# Altium footprint library 芯片.PcbLib: 193 footprints (part 7 of 13)
Each footprint in its own frame and in the unit in brackets; x right, y up, seen from the top. Pads: shape width x height; smd on the part's side, far side on the other; paste and mask are expansions set on the pad; w line width, h text height; cw(c..) or ccw(c..) is an arc to the next point about the centre after c.
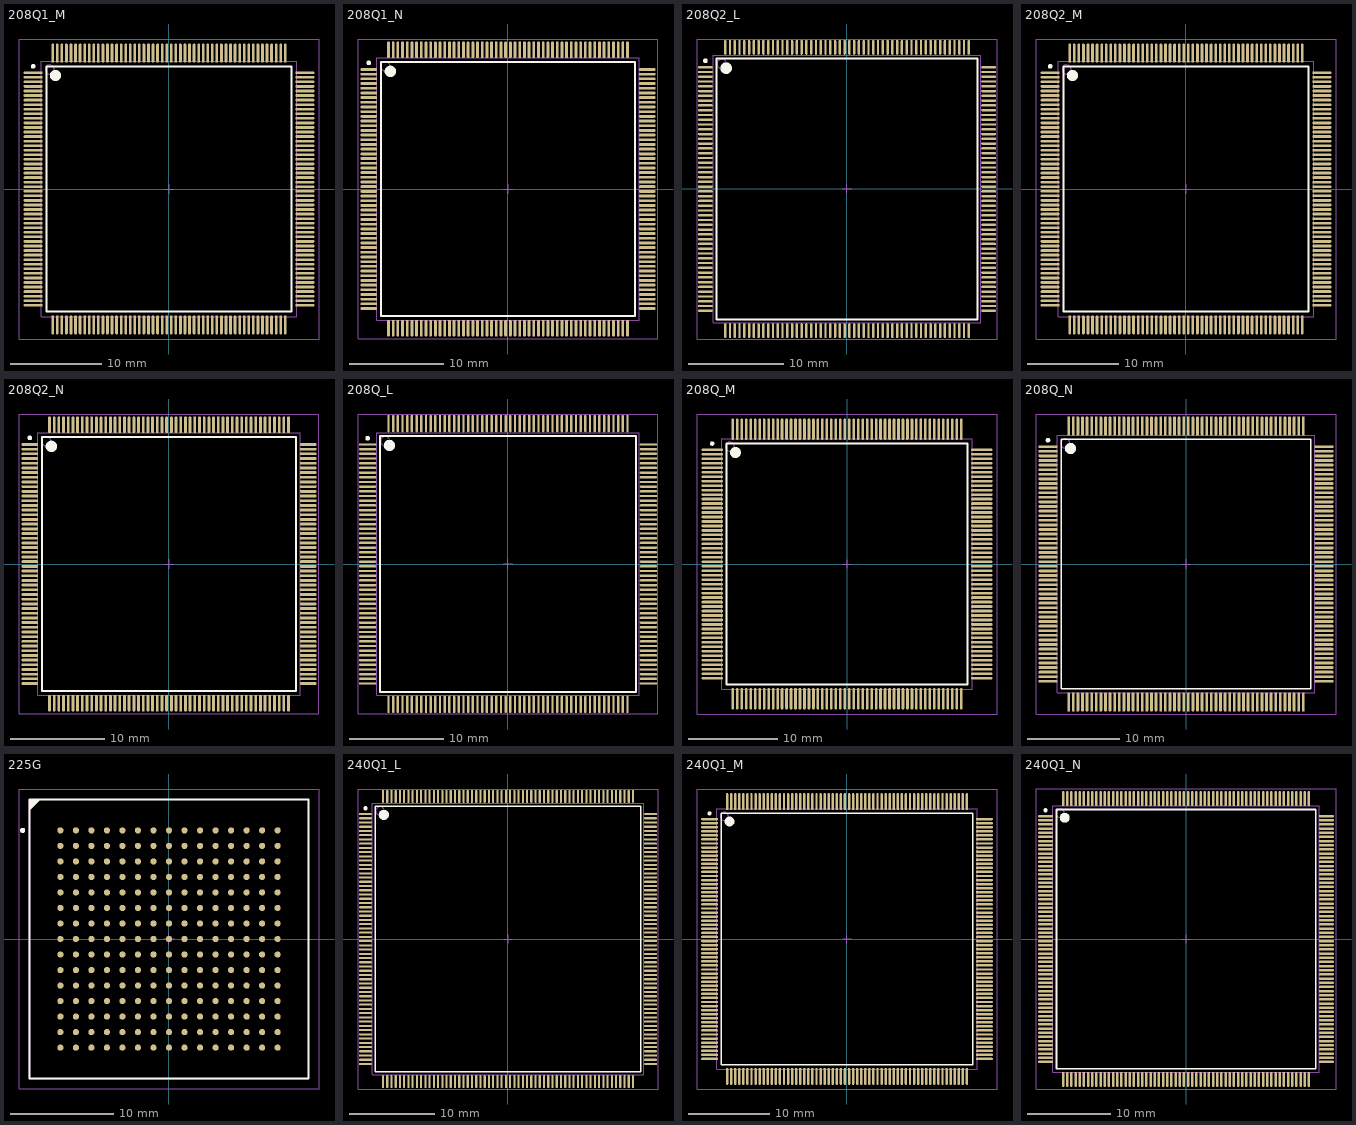
[diagram p6: the footprints below, top view; thin cyan lines are the x and y axes]

## 208Q1_M [mm] "208-Pin Shrink Quad Flat Pack 0.5 mm Pitch, IPC Low Density"
height 4.02
pads (208):
  oval 2.1x0.3 smd: 1(-14.9,12.75) 2(-14.9,12.25) 3(-14.9,11.75) 4(-14.9,11.25) 5(-14.9,10.75) 6(-14.9,10.25) 7(-14.9,9.75) 8(-14.9,9.25) 9(-14.9,8.75) 10(-14.9,8.25) 11(-14.9,7.75) 12(-14.9,7.25) 13(-14.9,6.75) 14(-14.9,6.25) 15(-14.9,5.75) 16(-14.9,5.25) 17(-14.9,4.75) 18(-14.9,4.25) 19(-14.9,3.75) 20(-14.9,3.25) 21(-14.9,2.75) 22(-14.9,2.25) 23(-14.9,1.75) 24(-14.9,1.25) 25(-14.9,0.75) 26(-14.9,0.25) 27(-14.9,-0.25) 28(-14.9,-0.75) 29(-14.9,-1.25) 30(-14.9,-1.75) 31(-14.9,-2.25) 32(-14.9,-2.75) 33(-14.9,-3.25) 34(-14.9,-3.75) 35(-14.9,-4.25) 36(-14.9,-4.75) 37(-14.9,-5.25) 38(-14.9,-5.75) 39(-14.9,-6.25) 40(-14.9,-6.75) 41(-14.9,-7.25) 42(-14.9,-7.75) 43(-14.9,-8.25) 44(-14.9,-8.75) 45(-14.9,-9.25) 46(-14.9,-9.75) 47(-14.9,-10.25) 48(-14.9,-10.75) 49(-14.9,-11.25) 50(-14.9,-11.75) 51(-14.9,-12.25) 52(-14.9,-12.75) 105(14.9,-12.75) 106(14.9,-12.25) 107(14.9,-11.75) 108(14.9,-11.25) 109(14.9,-10.75) 110(14.9,-10.25) 111(14.9,-9.75) 112(14.9,-9.25) 113(14.9,-8.75) 114(14.9,-8.25) 115(14.9,-7.75) 116(14.9,-7.25) 117(14.9,-6.75) 118(14.9,-6.25) 119(14.9,-5.75) 120(14.9,-5.25) 121(14.9,-4.75) 122(14.9,-4.25) 123(14.9,-3.75) 124(14.9,-3.25) 125(14.9,-2.75) 126(14.9,-2.25) 127(14.9,-1.75) 128(14.9,-1.25) 129(14.9,-0.75) 130(14.9,-0.25) 131(14.9,0.25) 132(14.9,0.75) 133(14.9,1.25) 134(14.9,1.75) 135(14.9,2.25) 136(14.9,2.75) 137(14.9,3.25) 138(14.9,3.75) 139(14.9,4.25) 140(14.9,4.75) 141(14.9,5.25) 142(14.9,5.75) 143(14.9,6.25) 144(14.9,6.75) 145(14.9,7.25) 146(14.9,7.75) 147(14.9,8.25) 148(14.9,8.75) 149(14.9,9.25) 150(14.9,9.75) 151(14.9,10.25) 152(14.9,10.75) 153(14.9,11.25) 154(14.9,11.75) 155(14.9,12.25) 156(14.9,12.75)
  oval 0.3x2.1 smd: 53(-12.75,-14.9) 54(-12.25,-14.9) 55(-11.75,-14.9) 56(-11.25,-14.9) 57(-10.75,-14.9) 58(-10.25,-14.9) 59(-9.75,-14.9) 60(-9.25,-14.9) 61(-8.75,-14.9) 62(-8.25,-14.9) 63(-7.75,-14.9) 64(-7.25,-14.9) 65(-6.75,-14.9) 66(-6.25,-14.9) 67(-5.75,-14.9) 68(-5.25,-14.9) 69(-4.75,-14.9) 70(-4.25,-14.9) 71(-3.75,-14.9) 72(-3.25,-14.9) 73(-2.75,-14.9) 74(-2.25,-14.9) 75(-1.75,-14.9) 76(-1.25,-14.9) 77(-0.75,-14.9) 78(-0.25,-14.9) 79(0.25,-14.9) 80(0.75,-14.9) 81(1.25,-14.9) 82(1.75,-14.9) 83(2.25,-14.9) 84(2.75,-14.9) 85(3.25,-14.9) 86(3.75,-14.9) 87(4.25,-14.9) 88(4.75,-14.9) 89(5.25,-14.9) 90(5.75,-14.9) 91(6.25,-14.9) 92(6.75,-14.9) 93(7.25,-14.9) 94(7.75,-14.9) 95(8.25,-14.9) 96(8.75,-14.9) 97(9.25,-14.9) 98(9.75,-14.9) 99(10.25,-14.9) 100(10.75,-14.9) 101(11.25,-14.9) 102(11.75,-14.9) 103(12.25,-14.9) 104(12.75,-14.9) 157(12.75,14.9) 158(12.25,14.9) 159(11.75,14.9) 160(11.25,14.9) 161(10.75,14.9) 162(10.25,14.9) 163(9.75,14.9) 164(9.25,14.9) 165(8.75,14.9) 166(8.25,14.9) 167(7.75,14.9) 168(7.25,14.9) 169(6.75,14.9) 170(6.25,14.9) 171(5.75,14.9) 172(5.25,14.9) 173(4.75,14.9) 174(4.25,14.9) 175(3.75,14.9) 176(3.25,14.9) 177(2.75,14.9) 178(2.25,14.9) 179(1.75,14.9) 180(1.25,14.9) 181(0.75,14.9) 182(0.25,14.9) 183(-0.25,14.9) 184(-0.75,14.9) 185(-1.25,14.9) 186(-1.75,14.9) 187(-2.25,14.9) 188(-2.75,14.9) 189(-3.25,14.9) 190(-3.75,14.9) 191(-4.25,14.9) 192(-4.75,14.9) 193(-5.25,14.9) 194(-5.75,14.9) 195(-6.25,14.9) 196(-6.75,14.9) 197(-7.25,14.9) 198(-7.75,14.9) 199(-8.25,14.9) 200(-8.75,14.9) 201(-9.25,14.9) 202(-9.75,14.9) 203(-10.25,14.9) 204(-10.75,14.9) 205(-11.25,14.9) 206(-11.75,14.9) 207(-12.25,14.9) 208(-12.75,14.9)
Top Overlay:
  circle w0.6: c-12.45,12.45 r0.3
  circle w0.25: c-14.9,13.45 r0.125
  lines w0.2: -13.45,-13.45 13.45,-13.45 13.45,13.45 -13.45,13.45 -13.45,-13.45
Mechanical 13:
  circle w0.1: c-13.1,13.1 r0.5
  lines w0.1: -14,-14 14,-14 14,14 -14,14 -14,-14
Mechanical 15:
  lines w0.1: -0.5,0 0.5,0 ; 0,-0.5 0,0.5 ; -16.45,-16.45 16.45,-16.45 16.45,16.45 -16.45,16.45 -16.45,-16.45
3D body: height 4.02, standoff 0, extent -14,-14 14,14

## 208Q1_N [mm] "208-Pin Shrink Quad Flat Pack 0.5 mm Pitch, IPC Medium Density"
height 4.02
pads (208):
  oval 1.8x0.3 smd: 1(-14.85,12.75) 2(-14.85,12.25) 3(-14.85,11.75) 4(-14.85,11.25) 5(-14.85,10.75) 6(-14.85,10.25) 7(-14.85,9.75) 8(-14.85,9.25) 9(-14.85,8.75) 10(-14.85,8.25) 11(-14.85,7.75) 12(-14.85,7.25) 13(-14.85,6.75) 14(-14.85,6.25) 15(-14.85,5.75) 16(-14.85,5.25) 17(-14.85,4.75) 18(-14.85,4.25) 19(-14.85,3.75) 20(-14.85,3.25) 21(-14.85,2.75) 22(-14.85,2.25) 23(-14.85,1.75) 24(-14.85,1.25) 25(-14.85,0.75) 26(-14.85,0.25) 27(-14.85,-0.25) 28(-14.85,-0.75) 29(-14.85,-1.25) 30(-14.85,-1.75) 31(-14.85,-2.25) 32(-14.85,-2.75) 33(-14.85,-3.25) 34(-14.85,-3.75) 35(-14.85,-4.25) 36(-14.85,-4.75) 37(-14.85,-5.25) 38(-14.85,-5.75) 39(-14.85,-6.25) 40(-14.85,-6.75) 41(-14.85,-7.25) 42(-14.85,-7.75) 43(-14.85,-8.25) 44(-14.85,-8.75) 45(-14.85,-9.25) 46(-14.85,-9.75) 47(-14.85,-10.25) 48(-14.85,-10.75) 49(-14.85,-11.25) 50(-14.85,-11.75) 51(-14.85,-12.25) 52(-14.85,-12.75) 105(14.85,-12.75) 106(14.85,-12.25) 107(14.85,-11.75) 108(14.85,-11.25) 109(14.85,-10.75) 110(14.85,-10.25) 111(14.85,-9.75) 112(14.85,-9.25) 113(14.85,-8.75) 114(14.85,-8.25) 115(14.85,-7.75) 116(14.85,-7.25) 117(14.85,-6.75) 118(14.85,-6.25) 119(14.85,-5.75) 120(14.85,-5.25) 121(14.85,-4.75) 122(14.85,-4.25) 123(14.85,-3.75) 124(14.85,-3.25) 125(14.85,-2.75) 126(14.85,-2.25) 127(14.85,-1.75) 128(14.85,-1.25) 129(14.85,-0.75) 130(14.85,-0.25) 131(14.85,0.25) 132(14.85,0.75) 133(14.85,1.25) 134(14.85,1.75) 135(14.85,2.25) 136(14.85,2.75) 137(14.85,3.25) 138(14.85,3.75) 139(14.85,4.25) 140(14.85,4.75) 141(14.85,5.25) 142(14.85,5.75) 143(14.85,6.25) 144(14.85,6.75) 145(14.85,7.25) 146(14.85,7.75) 147(14.85,8.25) 148(14.85,8.75) 149(14.85,9.25) 150(14.85,9.75) 151(14.85,10.25) 152(14.85,10.75) 153(14.85,11.25) 154(14.85,11.75) 155(14.85,12.25) 156(14.85,12.75)
  oval 0.3x1.8 smd: 53(-12.75,-14.85) 54(-12.25,-14.85) 55(-11.75,-14.85) 56(-11.25,-14.85) 57(-10.75,-14.85) 58(-10.25,-14.85) 59(-9.75,-14.85) 60(-9.25,-14.85) 61(-8.75,-14.85) 62(-8.25,-14.85) 63(-7.75,-14.85) 64(-7.25,-14.85) 65(-6.75,-14.85) 66(-6.25,-14.85) 67(-5.75,-14.85) 68(-5.25,-14.85) 69(-4.75,-14.85) 70(-4.25,-14.85) 71(-3.75,-14.85) 72(-3.25,-14.85) 73(-2.75,-14.85) 74(-2.25,-14.85) 75(-1.75,-14.85) 76(-1.25,-14.85) 77(-0.75,-14.85) 78(-0.25,-14.85) 79(0.25,-14.85) 80(0.75,-14.85) 81(1.25,-14.85) 82(1.75,-14.85) 83(2.25,-14.85) 84(2.75,-14.85) 85(3.25,-14.85) 86(3.75,-14.85) 87(4.25,-14.85) 88(4.75,-14.85) 89(5.25,-14.85) 90(5.75,-14.85) 91(6.25,-14.85) 92(6.75,-14.85) 93(7.25,-14.85) 94(7.75,-14.85) 95(8.25,-14.85) 96(8.75,-14.85) 97(9.25,-14.85) 98(9.75,-14.85) 99(10.25,-14.85) 100(10.75,-14.85) 101(11.25,-14.85) 102(11.75,-14.85) 103(12.25,-14.85) 104(12.75,-14.85) 157(12.75,14.85) 158(12.25,14.85) 159(11.75,14.85) 160(11.25,14.85) 161(10.75,14.85) 162(10.25,14.85) 163(9.75,14.85) 164(9.25,14.85) 165(8.75,14.85) 166(8.25,14.85) 167(7.75,14.85) 168(7.25,14.85) 169(6.75,14.85) 170(6.25,14.85) 171(5.75,14.85) 172(5.25,14.85) 173(4.75,14.85) 174(4.25,14.85) 175(3.75,14.85) 176(3.25,14.85) 177(2.75,14.85) 178(2.25,14.85) 179(1.75,14.85) 180(1.25,14.85) 181(0.75,14.85) 182(0.25,14.85) 183(-0.25,14.85) 184(-0.75,14.85) 185(-1.25,14.85) 186(-1.75,14.85) 187(-2.25,14.85) 188(-2.75,14.85) 189(-3.25,14.85) 190(-3.75,14.85) 191(-4.25,14.85) 192(-4.75,14.85) 193(-5.25,14.85) 194(-5.75,14.85) 195(-6.25,14.85) 196(-6.75,14.85) 197(-7.25,14.85) 198(-7.75,14.85) 199(-8.25,14.85) 200(-8.75,14.85) 201(-9.25,14.85) 202(-9.75,14.85) 203(-10.25,14.85) 204(-10.75,14.85) 205(-11.25,14.85) 206(-11.75,14.85) 207(-12.25,14.85) 208(-12.75,14.85)
Top Overlay:
  circle w0.6: c-12.55,12.55 r0.3
  circle w0.25: c-14.85,13.45 r0.125
  lines w0.2: -13.55,-13.55 13.55,-13.55 13.55,13.55 -13.55,13.55 -13.55,-13.55
Mechanical 13:
  circle w0.1: c-13.1,13.1 r0.5
  lines w0.1: -14,-14 14,-14 14,14 -14,14 -14,-14
Mechanical 15:
  lines w0.1: -0.5,0 0.5,0 ; 0,-0.5 0,0.5 ; -16,-16 16,-16 16,16 -16,16 -16,-16
3D body: height 4.02, standoff 0, extent -14,-14 14,14

## 208Q2_L [mm] "208-Pin Plastic Shrink Quad Flat Pack 0.5 mm Pitch, IPC High Density"
height 3.78
pads (208):
  oval 1.55x0.25 smd: 1(-14.825,12.75) 2(-14.825,12.25) 3(-14.825,11.75) 4(-14.825,11.25) 5(-14.825,10.75) 6(-14.825,10.25) 7(-14.825,9.75) 8(-14.825,9.25) 9(-14.825,8.75) 10(-14.825,8.25) 11(-14.825,7.75) 12(-14.825,7.25) 13(-14.825,6.75) 14(-14.825,6.25) 15(-14.825,5.75) 16(-14.825,5.25) 17(-14.825,4.75) 18(-14.825,4.25) 19(-14.825,3.75) 20(-14.825,3.25) 21(-14.825,2.75) 22(-14.825,2.25) 23(-14.825,1.75) 24(-14.825,1.25) 25(-14.825,0.75) 26(-14.825,0.25) 27(-14.825,-0.25) 28(-14.825,-0.75) 29(-14.825,-1.25) 30(-14.825,-1.75) 31(-14.825,-2.25) 32(-14.825,-2.75) 33(-14.825,-3.25) 34(-14.825,-3.75) 35(-14.825,-4.25) 36(-14.825,-4.75) 37(-14.825,-5.25) 38(-14.825,-5.75) 39(-14.825,-6.25) 40(-14.825,-6.75) 41(-14.825,-7.25) 42(-14.825,-7.75) 43(-14.825,-8.25) 44(-14.825,-8.75) 45(-14.825,-9.25) 46(-14.825,-9.75) 47(-14.825,-10.25) 48(-14.825,-10.75) 49(-14.825,-11.25) 50(-14.825,-11.75) 51(-14.825,-12.25) 52(-14.825,-12.75) 105(14.825,-12.75) 106(14.825,-12.25) 107(14.825,-11.75) 108(14.825,-11.25) 109(14.825,-10.75) 110(14.825,-10.25) 111(14.825,-9.75) 112(14.825,-9.25) 113(14.825,-8.75) 114(14.825,-8.25) 115(14.825,-7.75) 116(14.825,-7.25) 117(14.825,-6.75) 118(14.825,-6.25) 119(14.825,-5.75) 120(14.825,-5.25) 121(14.825,-4.75) 122(14.825,-4.25) 123(14.825,-3.75) 124(14.825,-3.25) 125(14.825,-2.75) 126(14.825,-2.25) 127(14.825,-1.75) 128(14.825,-1.25) 129(14.825,-0.75) 130(14.825,-0.25) 131(14.825,0.25) 132(14.825,0.75) 133(14.825,1.25) 134(14.825,1.75) 135(14.825,2.25) 136(14.825,2.75) 137(14.825,3.25) 138(14.825,3.75) 139(14.825,4.25) 140(14.825,4.75) 141(14.825,5.25) 142(14.825,5.75) 143(14.825,6.25) 144(14.825,6.75) 145(14.825,7.25) 146(14.825,7.75) 147(14.825,8.25) 148(14.825,8.75) 149(14.825,9.25) 150(14.825,9.75) 151(14.825,10.25) 152(14.825,10.75) 153(14.825,11.25) 154(14.825,11.75) 155(14.825,12.25) 156(14.825,12.75)
  oval 0.25x1.55 smd: 53(-12.75,-14.825) 54(-12.25,-14.825) 55(-11.75,-14.825) 56(-11.25,-14.825) 57(-10.75,-14.825) 58(-10.25,-14.825) 59(-9.75,-14.825) 60(-9.25,-14.825) 61(-8.75,-14.825) 62(-8.25,-14.825) 63(-7.75,-14.825) 64(-7.25,-14.825) 65(-6.75,-14.825) 66(-6.25,-14.825) 67(-5.75,-14.825) 68(-5.25,-14.825) 69(-4.75,-14.825) 70(-4.25,-14.825) 71(-3.75,-14.825) 72(-3.25,-14.825) 73(-2.75,-14.825) 74(-2.25,-14.825) 75(-1.75,-14.825) 76(-1.25,-14.825) 77(-0.75,-14.825) 78(-0.25,-14.825) 79(0.25,-14.825) 80(0.75,-14.825) 81(1.25,-14.825) 82(1.75,-14.825) 83(2.25,-14.825) 84(2.75,-14.825) 85(3.25,-14.825) 86(3.75,-14.825) 87(4.25,-14.825) 88(4.75,-14.825) 89(5.25,-14.825) 90(5.75,-14.825) 91(6.25,-14.825) 92(6.75,-14.825) 93(7.25,-14.825) 94(7.75,-14.825) 95(8.25,-14.825) 96(8.75,-14.825) 97(9.25,-14.825) 98(9.75,-14.825) 99(10.25,-14.825) 100(10.75,-14.825) 101(11.25,-14.825) 102(11.75,-14.825) 103(12.25,-14.825) 104(12.75,-14.825) 157(12.75,14.825) 158(12.25,14.825) 159(11.75,14.825) 160(11.25,14.825) 161(10.75,14.825) 162(10.25,14.825) 163(9.75,14.825) 164(9.25,14.825) 165(8.75,14.825) 166(8.25,14.825) 167(7.75,14.825) 168(7.25,14.825) 169(6.75,14.825) 170(6.25,14.825) 171(5.75,14.825) 172(5.25,14.825) 173(4.75,14.825) 174(4.25,14.825) 175(3.75,14.825) 176(3.25,14.825) 177(2.75,14.825) 178(2.25,14.825) 179(1.75,14.825) 180(1.25,14.825) 181(0.75,14.825) 182(0.25,14.825) 183(-0.25,14.825) 184(-0.75,14.825) 185(-1.25,14.825) 186(-1.75,14.825) 187(-2.25,14.825) 188(-2.75,14.825) 189(-3.25,14.825) 190(-3.75,14.825) 191(-4.25,14.825) 192(-4.75,14.825) 193(-5.25,14.825) 194(-5.75,14.825) 195(-6.25,14.825) 196(-6.75,14.825) 197(-7.25,14.825) 198(-7.75,14.825) 199(-8.25,14.825) 200(-8.75,14.825) 201(-9.25,14.825) 202(-9.75,14.825) 203(-10.25,14.825) 204(-10.75,14.825) 205(-11.25,14.825) 206(-11.75,14.825) 207(-12.25,14.825) 208(-12.75,14.825)
Top Overlay:
  circle w0.6: c-12.65,12.65 r0.3
  circle w0.25: c-14.825,13.425 r0.125
  lines w0.2: -13.65,-13.65 13.65,-13.65 13.65,13.65 -13.65,13.65 -13.65,-13.65
Mechanical 13:
  circle w0.1: c-13.1,13.1 r0.5
  lines w0.1: -14,-14 14,-14 14,14 -14,14 -14,-14
Mechanical 15:
  lines w0.1: -0.5,0 0.5,0 ; 0,-0.5 0,0.5 ; -15.7,-15.7 15.7,-15.7 15.7,15.7 -15.7,15.7 -15.7,-15.7
3D body: height 3.78, standoff 0, extent -14,-14 14,14

## 208Q2_M [mm] "208-Pin Plastic Shrink Quad Flat Pack 0.5 mm Pitch, IPC Low Density"
height 3.78
pads (208):
  oval 2.1x0.3 smd: 1(-14.9,12.75) 2(-14.9,12.25) 3(-14.9,11.75) 4(-14.9,11.25) 5(-14.9,10.75) 6(-14.9,10.25) 7(-14.9,9.75) 8(-14.9,9.25) 9(-14.9,8.75) 10(-14.9,8.25) 11(-14.9,7.75) 12(-14.9,7.25) 13(-14.9,6.75) 14(-14.9,6.25) 15(-14.9,5.75) 16(-14.9,5.25) 17(-14.9,4.75) 18(-14.9,4.25) 19(-14.9,3.75) 20(-14.9,3.25) 21(-14.9,2.75) 22(-14.9,2.25) 23(-14.9,1.75) 24(-14.9,1.25) 25(-14.9,0.75) 26(-14.9,0.25) 27(-14.9,-0.25) 28(-14.9,-0.75) 29(-14.9,-1.25) 30(-14.9,-1.75) 31(-14.9,-2.25) 32(-14.9,-2.75) 33(-14.9,-3.25) 34(-14.9,-3.75) 35(-14.9,-4.25) 36(-14.9,-4.75) 37(-14.9,-5.25) 38(-14.9,-5.75) 39(-14.9,-6.25) 40(-14.9,-6.75) 41(-14.9,-7.25) 42(-14.9,-7.75) 43(-14.9,-8.25) 44(-14.9,-8.75) 45(-14.9,-9.25) 46(-14.9,-9.75) 47(-14.9,-10.25) 48(-14.9,-10.75) 49(-14.9,-11.25) 50(-14.9,-11.75) 51(-14.9,-12.25) 52(-14.9,-12.75) 105(14.9,-12.75) 106(14.9,-12.25) 107(14.9,-11.75) 108(14.9,-11.25) 109(14.9,-10.75) 110(14.9,-10.25) 111(14.9,-9.75) 112(14.9,-9.25) 113(14.9,-8.75) 114(14.9,-8.25) 115(14.9,-7.75) 116(14.9,-7.25) 117(14.9,-6.75) 118(14.9,-6.25) 119(14.9,-5.75) 120(14.9,-5.25) 121(14.9,-4.75) 122(14.9,-4.25) 123(14.9,-3.75) 124(14.9,-3.25) 125(14.9,-2.75) 126(14.9,-2.25) 127(14.9,-1.75) 128(14.9,-1.25) 129(14.9,-0.75) 130(14.9,-0.25) 131(14.9,0.25) 132(14.9,0.75) 133(14.9,1.25) 134(14.9,1.75) 135(14.9,2.25) 136(14.9,2.75) 137(14.9,3.25) 138(14.9,3.75) 139(14.9,4.25) 140(14.9,4.75) 141(14.9,5.25) 142(14.9,5.75) 143(14.9,6.25) 144(14.9,6.75) 145(14.9,7.25) 146(14.9,7.75) 147(14.9,8.25) 148(14.9,8.75) 149(14.9,9.25) 150(14.9,9.75) 151(14.9,10.25) 152(14.9,10.75) 153(14.9,11.25) 154(14.9,11.75) 155(14.9,12.25) 156(14.9,12.75)
  oval 0.3x2.1 smd: 53(-12.75,-14.9) 54(-12.25,-14.9) 55(-11.75,-14.9) 56(-11.25,-14.9) 57(-10.75,-14.9) 58(-10.25,-14.9) 59(-9.75,-14.9) 60(-9.25,-14.9) 61(-8.75,-14.9) 62(-8.25,-14.9) 63(-7.75,-14.9) 64(-7.25,-14.9) 65(-6.75,-14.9) 66(-6.25,-14.9) 67(-5.75,-14.9) 68(-5.25,-14.9) 69(-4.75,-14.9) 70(-4.25,-14.9) 71(-3.75,-14.9) 72(-3.25,-14.9) 73(-2.75,-14.9) 74(-2.25,-14.9) 75(-1.75,-14.9) 76(-1.25,-14.9) 77(-0.75,-14.9) 78(-0.25,-14.9) 79(0.25,-14.9) 80(0.75,-14.9) 81(1.25,-14.9) 82(1.75,-14.9) 83(2.25,-14.9) 84(2.75,-14.9) 85(3.25,-14.9) 86(3.75,-14.9) 87(4.25,-14.9) 88(4.75,-14.9) 89(5.25,-14.9) 90(5.75,-14.9) 91(6.25,-14.9) 92(6.75,-14.9) 93(7.25,-14.9) 94(7.75,-14.9) 95(8.25,-14.9) 96(8.75,-14.9) 97(9.25,-14.9) 98(9.75,-14.9) 99(10.25,-14.9) 100(10.75,-14.9) 101(11.25,-14.9) 102(11.75,-14.9) 103(12.25,-14.9) 104(12.75,-14.9) 157(12.75,14.9) 158(12.25,14.9) 159(11.75,14.9) 160(11.25,14.9) 161(10.75,14.9) 162(10.25,14.9) 163(9.75,14.9) 164(9.25,14.9) 165(8.75,14.9) 166(8.25,14.9) 167(7.75,14.9) 168(7.25,14.9) 169(6.75,14.9) 170(6.25,14.9) 171(5.75,14.9) 172(5.25,14.9) 173(4.75,14.9) 174(4.25,14.9) 175(3.75,14.9) 176(3.25,14.9) 177(2.75,14.9) 178(2.25,14.9) 179(1.75,14.9) 180(1.25,14.9) 181(0.75,14.9) 182(0.25,14.9) 183(-0.25,14.9) 184(-0.75,14.9) 185(-1.25,14.9) 186(-1.75,14.9) 187(-2.25,14.9) 188(-2.75,14.9) 189(-3.25,14.9) 190(-3.75,14.9) 191(-4.25,14.9) 192(-4.75,14.9) 193(-5.25,14.9) 194(-5.75,14.9) 195(-6.25,14.9) 196(-6.75,14.9) 197(-7.25,14.9) 198(-7.75,14.9) 199(-8.25,14.9) 200(-8.75,14.9) 201(-9.25,14.9) 202(-9.75,14.9) 203(-10.25,14.9) 204(-10.75,14.9) 205(-11.25,14.9) 206(-11.75,14.9) 207(-12.25,14.9) 208(-12.75,14.9)
Top Overlay:
  circle w0.6: c-12.45,12.45 r0.3
  circle w0.25: c-14.9,13.45 r0.125
  lines w0.2: -13.45,-13.45 13.45,-13.45 13.45,13.45 -13.45,13.45 -13.45,-13.45
Mechanical 13:
  circle w0.1: c-13.1,13.1 r0.5
  lines w0.1: -14,-14 14,-14 14,14 -14,14 -14,-14
Mechanical 15:
  lines w0.1: -0.5,0 0.5,0 ; 0,-0.5 0,0.5 ; -16.45,-16.45 16.45,-16.45 16.45,16.45 -16.45,16.45 -16.45,-16.45
3D body: height 3.78, standoff 0, extent -14,-14 14,14

## 208Q2_N [mm] "208-Pin Plastic Shrink Quad Flat Pack 0.5 mm Pitch, IPC Medium Density"
height 3.78
pads (208):
  oval 1.8x0.3 smd: 1(-14.85,12.75) 2(-14.85,12.25) 3(-14.85,11.75) 4(-14.85,11.25) 5(-14.85,10.75) 6(-14.85,10.25) 7(-14.85,9.75) 8(-14.85,9.25) 9(-14.85,8.75) 10(-14.85,8.25) 11(-14.85,7.75) 12(-14.85,7.25) 13(-14.85,6.75) 14(-14.85,6.25) 15(-14.85,5.75) 16(-14.85,5.25) 17(-14.85,4.75) 18(-14.85,4.25) 19(-14.85,3.75) 20(-14.85,3.25) 21(-14.85,2.75) 22(-14.85,2.25) 23(-14.85,1.75) 24(-14.85,1.25) 25(-14.85,0.75) 26(-14.85,0.25) 27(-14.85,-0.25) 28(-14.85,-0.75) 29(-14.85,-1.25) 30(-14.85,-1.75) 31(-14.85,-2.25) 32(-14.85,-2.75) 33(-14.85,-3.25) 34(-14.85,-3.75) 35(-14.85,-4.25) 36(-14.85,-4.75) 37(-14.85,-5.25) 38(-14.85,-5.75) 39(-14.85,-6.25) 40(-14.85,-6.75) 41(-14.85,-7.25) 42(-14.85,-7.75) 43(-14.85,-8.25) 44(-14.85,-8.75) 45(-14.85,-9.25) 46(-14.85,-9.75) 47(-14.85,-10.25) 48(-14.85,-10.75) 49(-14.85,-11.25) 50(-14.85,-11.75) 51(-14.85,-12.25) 52(-14.85,-12.75) 105(14.85,-12.75) 106(14.85,-12.25) 107(14.85,-11.75) 108(14.85,-11.25) 109(14.85,-10.75) 110(14.85,-10.25) 111(14.85,-9.75) 112(14.85,-9.25) 113(14.85,-8.75) 114(14.85,-8.25) 115(14.85,-7.75) 116(14.85,-7.25) 117(14.85,-6.75) 118(14.85,-6.25) 119(14.85,-5.75) 120(14.85,-5.25) 121(14.85,-4.75) 122(14.85,-4.25) 123(14.85,-3.75) 124(14.85,-3.25) 125(14.85,-2.75) 126(14.85,-2.25) 127(14.85,-1.75) 128(14.85,-1.25) 129(14.85,-0.75) 130(14.85,-0.25) 131(14.85,0.25) 132(14.85,0.75) 133(14.85,1.25) 134(14.85,1.75) 135(14.85,2.25) 136(14.85,2.75) 137(14.85,3.25) 138(14.85,3.75) 139(14.85,4.25) 140(14.85,4.75) 141(14.85,5.25) 142(14.85,5.75) 143(14.85,6.25) 144(14.85,6.75) 145(14.85,7.25) 146(14.85,7.75) 147(14.85,8.25) 148(14.85,8.75) 149(14.85,9.25) 150(14.85,9.75) 151(14.85,10.25) 152(14.85,10.75) 153(14.85,11.25) 154(14.85,11.75) 155(14.85,12.25) 156(14.85,12.75)
  oval 0.3x1.8 smd: 53(-12.75,-14.85) 54(-12.25,-14.85) 55(-11.75,-14.85) 56(-11.25,-14.85) 57(-10.75,-14.85) 58(-10.25,-14.85) 59(-9.75,-14.85) 60(-9.25,-14.85) 61(-8.75,-14.85) 62(-8.25,-14.85) 63(-7.75,-14.85) 64(-7.25,-14.85) 65(-6.75,-14.85) 66(-6.25,-14.85) 67(-5.75,-14.85) 68(-5.25,-14.85) 69(-4.75,-14.85) 70(-4.25,-14.85) 71(-3.75,-14.85) 72(-3.25,-14.85) 73(-2.75,-14.85) 74(-2.25,-14.85) 75(-1.75,-14.85) 76(-1.25,-14.85) 77(-0.75,-14.85) 78(-0.25,-14.85) 79(0.25,-14.85) 80(0.75,-14.85) 81(1.25,-14.85) 82(1.75,-14.85) 83(2.25,-14.85) 84(2.75,-14.85) 85(3.25,-14.85) 86(3.75,-14.85) 87(4.25,-14.85) 88(4.75,-14.85) 89(5.25,-14.85) 90(5.75,-14.85) 91(6.25,-14.85) 92(6.75,-14.85) 93(7.25,-14.85) 94(7.75,-14.85) 95(8.25,-14.85) 96(8.75,-14.85) 97(9.25,-14.85) 98(9.75,-14.85) 99(10.25,-14.85) 100(10.75,-14.85) 101(11.25,-14.85) 102(11.75,-14.85) 103(12.25,-14.85) 104(12.75,-14.85) 157(12.75,14.85) 158(12.25,14.85) 159(11.75,14.85) 160(11.25,14.85) 161(10.75,14.85) 162(10.25,14.85) 163(9.75,14.85) 164(9.25,14.85) 165(8.75,14.85) 166(8.25,14.85) 167(7.75,14.85) 168(7.25,14.85) 169(6.75,14.85) 170(6.25,14.85) 171(5.75,14.85) 172(5.25,14.85) 173(4.75,14.85) 174(4.25,14.85) 175(3.75,14.85) 176(3.25,14.85) 177(2.75,14.85) 178(2.25,14.85) 179(1.75,14.85) 180(1.25,14.85) 181(0.75,14.85) 182(0.25,14.85) 183(-0.25,14.85) 184(-0.75,14.85) 185(-1.25,14.85) 186(-1.75,14.85) 187(-2.25,14.85) 188(-2.75,14.85) 189(-3.25,14.85) 190(-3.75,14.85) 191(-4.25,14.85) 192(-4.75,14.85) 193(-5.25,14.85) 194(-5.75,14.85) 195(-6.25,14.85) 196(-6.75,14.85) 197(-7.25,14.85) 198(-7.75,14.85) 199(-8.25,14.85) 200(-8.75,14.85) 201(-9.25,14.85) 202(-9.75,14.85) 203(-10.25,14.85) 204(-10.75,14.85) 205(-11.25,14.85) 206(-11.75,14.85) 207(-12.25,14.85) 208(-12.75,14.85)
Top Overlay:
  circle w0.6: c-12.55,12.55 r0.3
  circle w0.25: c-14.85,13.45 r0.125
  lines w0.2: -13.55,-13.55 13.55,-13.55 13.55,13.55 -13.55,13.55 -13.55,-13.55
Mechanical 13:
  circle w0.1: c-13.1,13.1 r0.5
  lines w0.1: -14,-14 14,-14 14,14 -14,14 -14,-14
Mechanical 15:
  lines w0.1: -0.5,0 0.5,0 ; 0,-0.5 0,0.5 ; -16,-16 16,-16 16,16 -16,16 -16,-16
3D body: height 3.78, standoff 0, extent -14,-14 14,14

## 208Q_L [mm] "208-Pin Plastic Gull Wing Quad Flat Package (PQFP), IPC High Density"
height 3.97
pads (208):
  oval 1.85x0.25 smd: 1(-14.975,12.75) 2(-14.975,12.25) 3(-14.975,11.75) 4(-14.975,11.25) 5(-14.975,10.75) 6(-14.975,10.25) 7(-14.975,9.75) 8(-14.975,9.25) 9(-14.975,8.75) 10(-14.975,8.25) 11(-14.975,7.75) 12(-14.975,7.25) 13(-14.975,6.75) 14(-14.975,6.25) 15(-14.975,5.75) 16(-14.975,5.25) 17(-14.975,4.75) 18(-14.975,4.25) 19(-14.975,3.75) 20(-14.975,3.25) 21(-14.975,2.75) 22(-14.975,2.25) 23(-14.975,1.75) 24(-14.975,1.25) 25(-14.975,0.75) 26(-14.975,0.25) 27(-14.975,-0.25) 28(-14.975,-0.75) 29(-14.975,-1.25) 30(-14.975,-1.75) 31(-14.975,-2.25) 32(-14.975,-2.75) 33(-14.975,-3.25) 34(-14.975,-3.75) 35(-14.975,-4.25) 36(-14.975,-4.75) 37(-14.975,-5.25) 38(-14.975,-5.75) 39(-14.975,-6.25) 40(-14.975,-6.75) 41(-14.975,-7.25) 42(-14.975,-7.75) 43(-14.975,-8.25) 44(-14.975,-8.75) 45(-14.975,-9.25) 46(-14.975,-9.75) 47(-14.975,-10.25) 48(-14.975,-10.75) 49(-14.975,-11.25) 50(-14.975,-11.75) 51(-14.975,-12.25) 52(-14.975,-12.75) 105(14.975,-12.75) 106(14.975,-12.25) 107(14.975,-11.75) 108(14.975,-11.25) 109(14.975,-10.75) 110(14.975,-10.25) 111(14.975,-9.75) 112(14.975,-9.25) 113(14.975,-8.75) 114(14.975,-8.25) 115(14.975,-7.75) 116(14.975,-7.25) 117(14.975,-6.75) 118(14.975,-6.25) 119(14.975,-5.75) 120(14.975,-5.25) 121(14.975,-4.75) 122(14.975,-4.25) 123(14.975,-3.75) 124(14.975,-3.25) 125(14.975,-2.75) 126(14.975,-2.25) 127(14.975,-1.75) 128(14.975,-1.25) 129(14.975,-0.75) 130(14.975,-0.25) 131(14.975,0.25) 132(14.975,0.75) 133(14.975,1.25) 134(14.975,1.75) 135(14.975,2.25) 136(14.975,2.75) 137(14.975,3.25) 138(14.975,3.75) 139(14.975,4.25) 140(14.975,4.75) 141(14.975,5.25) 142(14.975,5.75) 143(14.975,6.25) 144(14.975,6.75) 145(14.975,7.25) 146(14.975,7.75) 147(14.975,8.25) 148(14.975,8.75) 149(14.975,9.25) 150(14.975,9.75) 151(14.975,10.25) 152(14.975,10.75) 153(14.975,11.25) 154(14.975,11.75) 155(14.975,12.25) 156(14.975,12.75)
  oval 0.25x1.85 smd: 53(-12.75,-14.975) 54(-12.25,-14.975) 55(-11.75,-14.975) 56(-11.25,-14.975) 57(-10.75,-14.975) 58(-10.25,-14.975) 59(-9.75,-14.975) 60(-9.25,-14.975) 61(-8.75,-14.975) 62(-8.25,-14.975) 63(-7.75,-14.975) 64(-7.25,-14.975) 65(-6.75,-14.975) 66(-6.25,-14.975) 67(-5.75,-14.975) 68(-5.25,-14.975) 69(-4.75,-14.975) 70(-4.25,-14.975) 71(-3.75,-14.975) 72(-3.25,-14.975) 73(-2.75,-14.975) 74(-2.25,-14.975) 75(-1.75,-14.975) 76(-1.25,-14.975) 77(-0.75,-14.975) 78(-0.25,-14.975) 79(0.25,-14.975) 80(0.75,-14.975) 81(1.25,-14.975) 82(1.75,-14.975) 83(2.25,-14.975) 84(2.75,-14.975) 85(3.25,-14.975) 86(3.75,-14.975) 87(4.25,-14.975) 88(4.75,-14.975) 89(5.25,-14.975) 90(5.75,-14.975) 91(6.25,-14.975) 92(6.75,-14.975) 93(7.25,-14.975) 94(7.75,-14.975) 95(8.25,-14.975) 96(8.75,-14.975) 97(9.25,-14.975) 98(9.75,-14.975) 99(10.25,-14.975) 100(10.75,-14.975) 101(11.25,-14.975) 102(11.75,-14.975) 103(12.25,-14.975) 104(12.75,-14.975) 157(12.75,14.975) 158(12.25,14.975) 159(11.75,14.975) 160(11.25,14.975) 161(10.75,14.975) 162(10.25,14.975) 163(9.75,14.975) 164(9.25,14.975) 165(8.75,14.975) 166(8.25,14.975) 167(7.75,14.975) 168(7.25,14.975) 169(6.75,14.975) 170(6.25,14.975) 171(5.75,14.975) 172(5.25,14.975) 173(4.75,14.975) 174(4.25,14.975) 175(3.75,14.975) 176(3.25,14.975) 177(2.75,14.975) 178(2.25,14.975) 179(1.75,14.975) 180(1.25,14.975) 181(0.75,14.975) 182(0.25,14.975) 183(-0.25,14.975) 184(-0.75,14.975) 185(-1.25,14.975) 186(-1.75,14.975) 187(-2.25,14.975) 188(-2.75,14.975) 189(-3.25,14.975) 190(-3.75,14.975) 191(-4.25,14.975) 192(-4.75,14.975) 193(-5.25,14.975) 194(-5.75,14.975) 195(-6.25,14.975) 196(-6.75,14.975) 197(-7.25,14.975) 198(-7.75,14.975) 199(-8.25,14.975) 200(-8.75,14.975) 201(-9.25,14.975) 202(-9.75,14.975) 203(-10.25,14.975) 204(-10.75,14.975) 205(-11.25,14.975) 206(-11.75,14.975) 207(-12.25,14.975) 208(-12.75,14.975)
Top Overlay:
  circle w0.6: c-12.65,12.65 r0.3
  circle w0.25: c-14.975,13.425 r0.125
  lines w0.2: -13.65,-13.65 13.65,-13.65 13.65,13.65 -13.65,13.65 -13.65,-13.65
Mechanical 13:
  circle w0.1: c-13.1,13.1 r0.5
  lines w0.1: -14,-14 14,-14 14,14 -14,14 -14,-14
Mechanical 15:
  lines w0.1: -0.5,0 0.5,0 ; 0,-0.5 0,0.5 ; -16,-16 16,-16 16,16 -16,16 -16,-16
3D body: height 3.97, standoff 0, extent -14,-14 14,14

## 208Q_M [mm] "208-Pin Plastic Gull Wing Quad Flat Package (PQFP), IPC Low Density"
height 3.97
pads (208):
  oval 2.4x0.3 smd: 1(-15.05,12.75) 2(-15.05,12.25) 3(-15.05,11.75) 4(-15.05,11.25) 5(-15.05,10.75) 6(-15.05,10.25) 7(-15.05,9.75) 8(-15.05,9.25) 9(-15.05,8.75) 10(-15.05,8.25) 11(-15.05,7.75) 12(-15.05,7.25) 13(-15.05,6.75) 14(-15.05,6.25) 15(-15.05,5.75) 16(-15.05,5.25) 17(-15.05,4.75) 18(-15.05,4.25) 19(-15.05,3.75) 20(-15.05,3.25) 21(-15.05,2.75) 22(-15.05,2.25) 23(-15.05,1.75) 24(-15.05,1.25) 25(-15.05,0.75) 26(-15.05,0.25) 27(-15.05,-0.25) 28(-15.05,-0.75) 29(-15.05,-1.25) 30(-15.05,-1.75) 31(-15.05,-2.25) 32(-15.05,-2.75) 33(-15.05,-3.25) 34(-15.05,-3.75) 35(-15.05,-4.25) 36(-15.05,-4.75) 37(-15.05,-5.25) 38(-15.05,-5.75) 39(-15.05,-6.25) 40(-15.05,-6.75) 41(-15.05,-7.25) 42(-15.05,-7.75) 43(-15.05,-8.25) 44(-15.05,-8.75) 45(-15.05,-9.25) 46(-15.05,-9.75) 47(-15.05,-10.25) 48(-15.05,-10.75) 49(-15.05,-11.25) 50(-15.05,-11.75) 51(-15.05,-12.25) 52(-15.05,-12.75) 105(15.05,-12.75) 106(15.05,-12.25) 107(15.05,-11.75) 108(15.05,-11.25) 109(15.05,-10.75) 110(15.05,-10.25) 111(15.05,-9.75) 112(15.05,-9.25) 113(15.05,-8.75) 114(15.05,-8.25) 115(15.05,-7.75) 116(15.05,-7.25) 117(15.05,-6.75) 118(15.05,-6.25) 119(15.05,-5.75) 120(15.05,-5.25) 121(15.05,-4.75) 122(15.05,-4.25) 123(15.05,-3.75) 124(15.05,-3.25) 125(15.05,-2.75) 126(15.05,-2.25) 127(15.05,-1.75) 128(15.05,-1.25) 129(15.05,-0.75) 130(15.05,-0.25) 131(15.05,0.25) 132(15.05,0.75) 133(15.05,1.25) 134(15.05,1.75) 135(15.05,2.25) 136(15.05,2.75) 137(15.05,3.25) 138(15.05,3.75) 139(15.05,4.25) 140(15.05,4.75) 141(15.05,5.25) 142(15.05,5.75) 143(15.05,6.25) 144(15.05,6.75) 145(15.05,7.25) 146(15.05,7.75) 147(15.05,8.25) 148(15.05,8.75) 149(15.05,9.25) 150(15.05,9.75) 151(15.05,10.25) 152(15.05,10.75) 153(15.05,11.25) 154(15.05,11.75) 155(15.05,12.25) 156(15.05,12.75)
  oval 0.3x2.4 smd: 53(-12.75,-15.05) 54(-12.25,-15.05) 55(-11.75,-15.05) 56(-11.25,-15.05) 57(-10.75,-15.05) 58(-10.25,-15.05) 59(-9.75,-15.05) 60(-9.25,-15.05) 61(-8.75,-15.05) 62(-8.25,-15.05) 63(-7.75,-15.05) 64(-7.25,-15.05) 65(-6.75,-15.05) 66(-6.25,-15.05) 67(-5.75,-15.05) 68(-5.25,-15.05) 69(-4.75,-15.05) 70(-4.25,-15.05) 71(-3.75,-15.05) 72(-3.25,-15.05) 73(-2.75,-15.05) 74(-2.25,-15.05) 75(-1.75,-15.05) 76(-1.25,-15.05) 77(-0.75,-15.05) 78(-0.25,-15.05) 79(0.25,-15.05) 80(0.75,-15.05) 81(1.25,-15.05) 82(1.75,-15.05) 83(2.25,-15.05) 84(2.75,-15.05) 85(3.25,-15.05) 86(3.75,-15.05) 87(4.25,-15.05) 88(4.75,-15.05) 89(5.25,-15.05) 90(5.75,-15.05) 91(6.25,-15.05) 92(6.75,-15.05) 93(7.25,-15.05) 94(7.75,-15.05) 95(8.25,-15.05) 96(8.75,-15.05) 97(9.25,-15.05) 98(9.75,-15.05) 99(10.25,-15.05) 100(10.75,-15.05) 101(11.25,-15.05) 102(11.75,-15.05) 103(12.25,-15.05) 104(12.75,-15.05) 157(12.75,15.05) 158(12.25,15.05) 159(11.75,15.05) 160(11.25,15.05) 161(10.75,15.05) 162(10.25,15.05) 163(9.75,15.05) 164(9.25,15.05) 165(8.75,15.05) 166(8.25,15.05) 167(7.75,15.05) 168(7.25,15.05) 169(6.75,15.05) 170(6.25,15.05) 171(5.75,15.05) 172(5.25,15.05) 173(4.75,15.05) 174(4.25,15.05) 175(3.75,15.05) 176(3.25,15.05) 177(2.75,15.05) 178(2.25,15.05) 179(1.75,15.05) 180(1.25,15.05) 181(0.75,15.05) 182(0.25,15.05) 183(-0.25,15.05) 184(-0.75,15.05) 185(-1.25,15.05) 186(-1.75,15.05) 187(-2.25,15.05) 188(-2.75,15.05) 189(-3.25,15.05) 190(-3.75,15.05) 191(-4.25,15.05) 192(-4.75,15.05) 193(-5.25,15.05) 194(-5.75,15.05) 195(-6.25,15.05) 196(-6.75,15.05) 197(-7.25,15.05) 198(-7.75,15.05) 199(-8.25,15.05) 200(-8.75,15.05) 201(-9.25,15.05) 202(-9.75,15.05) 203(-10.25,15.05) 204(-10.75,15.05) 205(-11.25,15.05) 206(-11.75,15.05) 207(-12.25,15.05) 208(-12.75,15.05)
Top Overlay:
  circle w0.6: c-12.45,12.45 r0.3
  circle w0.25: c-15.05,13.45 r0.125
  lines w0.2: -13.45,-13.45 13.45,-13.45 13.45,13.45 -13.45,13.45 -13.45,-13.45
Mechanical 13:
  circle w0.1: c-13.1,13.1 r0.5
  lines w0.1: -14,-14 14,-14 14,14 -14,14 -14,-14
Mechanical 15:
  lines w0.1: -0.5,0 0.5,0 ; 0,-0.5 0,0.5 ; -16.75,-16.75 16.75,-16.75 16.75,16.75 -16.75,16.75 -16.75,-16.75
3D body: height 3.97, standoff 0, extent -14,-14 14,14

## 208Q_N [mm] "208-Pin Plastic Gull Wing Quad Flat Package (PQFP), IPC Medium Density"
height 3.97
pads (208):
  oval 2.1x0.3 smd: 1(-15,12.75) 2(-15,12.25) 3(-15,11.75) 4(-15,11.25) 5(-15,10.75) 6(-15,10.25) 7(-15,9.75) 8(-15,9.25) 9(-15,8.75) 10(-15,8.25) 11(-15,7.75) 12(-15,7.25) 13(-15,6.75) 14(-15,6.25) 15(-15,5.75) 16(-15,5.25) 17(-15,4.75) 18(-15,4.25) 19(-15,3.75) 20(-15,3.25) 21(-15,2.75) 22(-15,2.25) 23(-15,1.75) 24(-15,1.25) 25(-15,0.75) 26(-15,0.25) 27(-15,-0.25) 28(-15,-0.75) 29(-15,-1.25) 30(-15,-1.75) 31(-15,-2.25) 32(-15,-2.75) 33(-15,-3.25) 34(-15,-3.75) 35(-15,-4.25) 36(-15,-4.75) 37(-15,-5.25) 38(-15,-5.75) 39(-15,-6.25) 40(-15,-6.75) 41(-15,-7.25) 42(-15,-7.75) 43(-15,-8.25) 44(-15,-8.75) 45(-15,-9.25) 46(-15,-9.75) 47(-15,-10.25) 48(-15,-10.75) 49(-15,-11.25) 50(-15,-11.75) 51(-15,-12.25) 52(-15,-12.75) 105(15,-12.75) 106(15,-12.25) 107(15,-11.75) 108(15,-11.25) 109(15,-10.75) 110(15,-10.25) 111(15,-9.75) 112(15,-9.25) 113(15,-8.75) 114(15,-8.25) 115(15,-7.75) 116(15,-7.25) 117(15,-6.75) 118(15,-6.25) 119(15,-5.75) 120(15,-5.25) 121(15,-4.75) 122(15,-4.25) 123(15,-3.75) 124(15,-3.25) 125(15,-2.75) 126(15,-2.25) 127(15,-1.75) 128(15,-1.25) 129(15,-0.75) 130(15,-0.25) 131(15,0.25) 132(15,0.75) 133(15,1.25) 134(15,1.75) 135(15,2.25) 136(15,2.75) 137(15,3.25) 138(15,3.75) 139(15,4.25) 140(15,4.75) 141(15,5.25) 142(15,5.75) 143(15,6.25) 144(15,6.75) 145(15,7.25) 146(15,7.75) 147(15,8.25) 148(15,8.75) 149(15,9.25) 150(15,9.75) 151(15,10.25) 152(15,10.75) 153(15,11.25) 154(15,11.75) 155(15,12.25) 156(15,12.75)
  oval 0.3x2.1 smd: 53(-12.75,-15) 54(-12.25,-15) 55(-11.75,-15) 56(-11.25,-15) 57(-10.75,-15) 58(-10.25,-15) 59(-9.75,-15) 60(-9.25,-15) 61(-8.75,-15) 62(-8.25,-15) 63(-7.75,-15) 64(-7.25,-15) 65(-6.75,-15) 66(-6.25,-15) 67(-5.75,-15) 68(-5.25,-15) 69(-4.75,-15) 70(-4.25,-15) 71(-3.75,-15) 72(-3.25,-15) 73(-2.75,-15) 74(-2.25,-15) 75(-1.75,-15) 76(-1.25,-15) 77(-0.75,-15) 78(-0.25,-15) 79(0.25,-15) 80(0.75,-15) 81(1.25,-15) 82(1.75,-15) 83(2.25,-15) 84(2.75,-15) 85(3.25,-15) 86(3.75,-15) 87(4.25,-15) 88(4.75,-15) 89(5.25,-15) 90(5.75,-15) 91(6.25,-15) 92(6.75,-15) 93(7.25,-15) 94(7.75,-15) 95(8.25,-15) 96(8.75,-15) 97(9.25,-15) 98(9.75,-15) 99(10.25,-15) 100(10.75,-15) 101(11.25,-15) 102(11.75,-15) 103(12.25,-15) 104(12.75,-15) 157(12.75,15) 158(12.25,15) 159(11.75,15) 160(11.25,15) 161(10.75,15) 162(10.25,15) 163(9.75,15) 164(9.25,15) 165(8.75,15) 166(8.25,15) 167(7.75,15) 168(7.25,15) 169(6.75,15) 170(6.25,15) 171(5.75,15) 172(5.25,15) 173(4.75,15) 174(4.25,15) 175(3.75,15) 176(3.25,15) 177(2.75,15) 178(2.25,15) 179(1.75,15) 180(1.25,15) 181(0.75,15) 182(0.25,15) 183(-0.25,15) 184(-0.75,15) 185(-1.25,15) 186(-1.75,15) 187(-2.25,15) 188(-2.75,15) 189(-3.25,15) 190(-3.75,15) 191(-4.25,15) 192(-4.75,15) 193(-5.25,15) 194(-5.75,15) 195(-6.25,15) 196(-6.75,15) 197(-7.25,15) 198(-7.75,15) 199(-8.25,15) 200(-8.75,15) 201(-9.25,15) 202(-9.75,15) 203(-10.25,15) 204(-10.75,15) 205(-11.25,15) 206(-11.75,15) 207(-12.25,15) 208(-12.75,15)
Top Overlay:
  circle w0.6: c-12.55,12.55 r0.3
  circle w0.25: c-15,13.45 r0.125
  lines w0.2: -13.55,-13.55 13.55,-13.55 13.55,13.55 -13.55,13.55 -13.55,-13.55
Mechanical 13:
  circle w0.1: c-13.1,13.1 r0.5
  lines w0.1: -14,-14 14,-14 14,14 -14,14 -14,-14
Mechanical 15:
  lines w0.1: -0.5,0 0.5,0 ; 0,-0.5 0,0.5 ; -16.3,-16.3 16.3,-16.3 16.3,16.3 -16.3,16.3 -16.3,-16.3
3D body: height 3.97, standoff 0, extent -14,-14 14,14

## 225G [mm] "225-Ball Ball Grid Array 1.5 mm Pitch"
height 1.53
pads (225):
  round 0.6 smd: A1(-10.5,10.5) A2(-9,10.5) A3(-7.5,10.5) A4(-6,10.5) A5(-4.5,10.5) A6(-3,10.5) A7(-1.5,10.5) A8(0,10.5) A9(1.5,10.5) A10(3,10.5) A11(4.5,10.5) A12(6,10.5) A13(7.5,10.5) A14(9,10.5) A15(10.5,10.5) B1(-10.5,9) B2(-9,9) B3(-7.5,9) B4(-6,9) B5(-4.5,9) B6(-3,9) B7(-1.5,9) B8(0,9) B9(1.5,9) B10(3,9) B11(4.5,9) B12(6,9) B13(7.5,9) B14(9,9) B15(10.5,9) C1(-10.5,7.5) C2(-9,7.5) C3(-7.5,7.5) C4(-6,7.5) C5(-4.5,7.5) C6(-3,7.5) C7(-1.5,7.5) C8(0,7.5) C9(1.5,7.5) C10(3,7.5) C11(4.5,7.5) C12(6,7.5) C13(7.5,7.5) C14(9,7.5) C15(10.5,7.5) D1(-10.5,6) D2(-9,6) D3(-7.5,6) D4(-6,6) D5(-4.5,6) D6(-3,6) D7(-1.5,6) D8(0,6) D9(1.5,6) D10(3,6) D11(4.5,6) D12(6,6) D13(7.5,6) D14(9,6) D15(10.5,6) E1(-10.5,4.5) E2(-9,4.5) E3(-7.5,4.5) E4(-6,4.5) E5(-4.5,4.5) E6(-3,4.5) E7(-1.5,4.5) E8(0,4.5) E9(1.5,4.5) E10(3,4.5) E11(4.5,4.5) E12(6,4.5) E13(7.5,4.5) E14(9,4.5) E15(10.5,4.5) F1(-10.5,3) F2(-9,3) F3(-7.5,3) F4(-6,3) F5(-4.5,3) F6(-3,3) F7(-1.5,3) F8(0,3) F9(1.5,3) F10(3,3) F11(4.5,3) F12(6,3) F13(7.5,3) F14(9,3) F15(10.5,3) G1(-10.5,1.5) G2(-9,1.5) G3(-7.5,1.5) G4(-6,1.5) G5(-4.5,1.5) G6(-3,1.5) G7(-1.5,1.5) G8(0,1.5) G9(1.5,1.5) G10(3,1.5) G11(4.5,1.5) G12(6,1.5) G13(7.5,1.5) G14(9,1.5) G15(10.5,1.5) H1(-10.5,0) H2(-9,0) H3(-7.5,0) H4(-6,0) H5(-4.5,0) H6(-3,0) H7(-1.5,0) H8(0,0) H9(1.5,0) H10(3,0) H11(4.5,0) H12(6,0) H13(7.5,0) H14(9,0) H15(10.5,0) J1(-10.5,-1.5) J2(-9,-1.5) J3(-7.5,-1.5) J4(-6,-1.5) J5(-4.5,-1.5) J6(-3,-1.5) J7(-1.5,-1.5) J8(0,-1.5) J9(1.5,-1.5) J10(3,-1.5) J11(4.5,-1.5) J12(6,-1.5) J13(7.5,-1.5) J14(9,-1.5) J15(10.5,-1.5) K1(-10.5,-3) K2(-9,-3) K3(-7.5,-3) K4(-6,-3) K5(-4.5,-3) K6(-3,-3) K7(-1.5,-3) K8(0,-3) K9(1.5,-3) K10(3,-3) K11(4.5,-3) K12(6,-3) K13(7.5,-3) K14(9,-3) K15(10.5,-3) L1(-10.5,-4.5) L2(-9,-4.5) L3(-7.5,-4.5) L4(-6,-4.5) L5(-4.5,-4.5) L6(-3,-4.5) L7(-1.5,-4.5) L8(0,-4.5) L9(1.5,-4.5) L10(3,-4.5) L11(4.5,-4.5) L12(6,-4.5) L13(7.5,-4.5) L14(9,-4.5) L15(10.5,-4.5) M1(-10.5,-6) M2(-9,-6) M3(-7.5,-6) M4(-6,-6) M5(-4.5,-6) M6(-3,-6) M7(-1.5,-6) M8(0,-6) M9(1.5,-6) M10(3,-6) M11(4.5,-6) M12(6,-6) M13(7.5,-6) M14(9,-6) M15(10.5,-6) N1(-10.5,-7.5) N2(-9,-7.5) N3(-7.5,-7.5) N4(-6,-7.5) N5(-4.5,-7.5) N6(-3,-7.5) N7(-1.5,-7.5) N8(0,-7.5) N9(1.5,-7.5) N10(3,-7.5) N11(4.5,-7.5) N12(6,-7.5) N13(7.5,-7.5) N14(9,-7.5) N15(10.5,-7.5) P1(-10.5,-9) P2(-9,-9) P3(-7.5,-9) P4(-6,-9) P5(-4.5,-9) P6(-3,-9) P7(-1.5,-9) P8(0,-9) P9(1.5,-9) P10(3,-9) P11(4.5,-9) P12(6,-9) P13(7.5,-9) P14(9,-9) P15(10.5,-9) R1(-10.5,-10.5) R2(-9,-10.5) R3(-7.5,-10.5) R4(-6,-10.5) R5(-4.5,-10.5) R6(-3,-10.5) R7(-1.5,-10.5) R8(0,-10.5) R9(1.5,-10.5) R10(3,-10.5) R11(4.5,-10.5) R12(6,-10.5) R13(7.5,-10.5) R14(9,-10.5) R15(10.5,-10.5)
Top Overlay:
  circle w0.25: c-14.15,10.5 r0.125
  region: -12.5,13.5 -13.5,12.5 -13.5,13.5
  lines w0.2: -13.5,12.5 -12.5,13.5 ; -13.5,-13.5 13.5,-13.5 13.5,13.5 -13.5,13.5 -13.5,-13.5
Mechanical 13:
  lines w0.1: -13.5,-13.5 13.5,-13.5 13.5,13.5 -13.5,13.5 -13.5,-13.5
Mechanical 15:
  lines w0.1: -0.5,0 0.5,0 ; 0,-0.5 0,0.5 ; -14.5,-14.5 14.5,-14.5 14.5,14.5 -14.5,14.5 -14.5,-14.5
3D body: height 1.53, standoff 0, extent -13.5,-13.5 13.5,13.5

## 240Q1_L [mm] "240-Pin Shrink Quad Flat Pack 0.5 mm Pitch, IPC High Density"
height 3.6
pads (240):
  oval 1.55x0.25 smd: 1(-16.825,14.75) 2(-16.825,14.25) 3(-16.825,13.75) 4(-16.825,13.25) 5(-16.825,12.75) 6(-16.825,12.25) 7(-16.825,11.75) 8(-16.825,11.25) 9(-16.825,10.75) 10(-16.825,10.25) 11(-16.825,9.75) 12(-16.825,9.25) 13(-16.825,8.75) 14(-16.825,8.25) 15(-16.825,7.75) 16(-16.825,7.25) 17(-16.825,6.75) 18(-16.825,6.25) 19(-16.825,5.75) 20(-16.825,5.25) 21(-16.825,4.75) 22(-16.825,4.25) 23(-16.825,3.75) 24(-16.825,3.25) 25(-16.825,2.75) 26(-16.825,2.25) 27(-16.825,1.75) 28(-16.825,1.25) 29(-16.825,0.75) 30(-16.825,0.25) 31(-16.825,-0.25) 32(-16.825,-0.75) 33(-16.825,-1.25) 34(-16.825,-1.75) 35(-16.825,-2.25) 36(-16.825,-2.75) 37(-16.825,-3.25) 38(-16.825,-3.75) 39(-16.825,-4.25) 40(-16.825,-4.75) 41(-16.825,-5.25) 42(-16.825,-5.75) 43(-16.825,-6.25) 44(-16.825,-6.75) 45(-16.825,-7.25) 46(-16.825,-7.75) 47(-16.825,-8.25) 48(-16.825,-8.75) 49(-16.825,-9.25) 50(-16.825,-9.75) 51(-16.825,-10.25) 52(-16.825,-10.75) 53(-16.825,-11.25) 54(-16.825,-11.75) 55(-16.825,-12.25) 56(-16.825,-12.75) 57(-16.825,-13.25) 58(-16.825,-13.75) 59(-16.825,-14.25) 60(-16.825,-14.75) 121(16.825,-14.75) 122(16.825,-14.25) 123(16.825,-13.75) 124(16.825,-13.25) 125(16.825,-12.75) 126(16.825,-12.25) 127(16.825,-11.75) 128(16.825,-11.25) 129(16.825,-10.75) 130(16.825,-10.25) 131(16.825,-9.75) 132(16.825,-9.25) 133(16.825,-8.75) 134(16.825,-8.25) 135(16.825,-7.75) 136(16.825,-7.25) 137(16.825,-6.75) 138(16.825,-6.25) 139(16.825,-5.75) 140(16.825,-5.25) 141(16.825,-4.75) 142(16.825,-4.25) 143(16.825,-3.75) 144(16.825,-3.25) 145(16.825,-2.75) 146(16.825,-2.25) 147(16.825,-1.75) 148(16.825,-1.25) 149(16.825,-0.75) 150(16.825,-0.25) 151(16.825,0.25) 152(16.825,0.75) 153(16.825,1.25) 154(16.825,1.75) 155(16.825,2.25) 156(16.825,2.75) 157(16.825,3.25) 158(16.825,3.75) 159(16.825,4.25) 160(16.825,4.75) 161(16.825,5.25) 162(16.825,5.75) 163(16.825,6.25) 164(16.825,6.75) 165(16.825,7.25) 166(16.825,7.75) 167(16.825,8.25) 168(16.825,8.75) 169(16.825,9.25) 170(16.825,9.75) 171(16.825,10.25) 172(16.825,10.75) 173(16.825,11.25) 174(16.825,11.75) 175(16.825,12.25) 176(16.825,12.75) 177(16.825,13.25) 178(16.825,13.75) 179(16.825,14.25) 180(16.825,14.75)
  oval 0.25x1.55 smd: 61(-14.75,-16.825) 62(-14.25,-16.825) 63(-13.75,-16.825) 64(-13.25,-16.825) 65(-12.75,-16.825) 66(-12.25,-16.825) 67(-11.75,-16.825) 68(-11.25,-16.825) 69(-10.75,-16.825) 70(-10.25,-16.825) 71(-9.75,-16.825) 72(-9.25,-16.825) 73(-8.75,-16.825) 74(-8.25,-16.825) 75(-7.75,-16.825) 76(-7.25,-16.825) 77(-6.75,-16.825) 78(-6.25,-16.825) 79(-5.75,-16.825) 80(-5.25,-16.825) 81(-4.75,-16.825) 82(-4.25,-16.825) 83(-3.75,-16.825) 84(-3.25,-16.825) 85(-2.75,-16.825) 86(-2.25,-16.825) 87(-1.75,-16.825) 88(-1.25,-16.825) 89(-0.75,-16.825) 90(-0.25,-16.825) 91(0.25,-16.825) 92(0.75,-16.825) 93(1.25,-16.825) 94(1.75,-16.825) 95(2.25,-16.825) 96(2.75,-16.825) 97(3.25,-16.825) 98(3.75,-16.825) 99(4.25,-16.825) 100(4.75,-16.825) 101(5.25,-16.825) 102(5.75,-16.825) 103(6.25,-16.825) 104(6.75,-16.825) 105(7.25,-16.825) 106(7.75,-16.825) 107(8.25,-16.825) 108(8.75,-16.825) 109(9.25,-16.825) 110(9.75,-16.825) 111(10.25,-16.825) 112(10.75,-16.825) 113(11.25,-16.825) 114(11.75,-16.825) 115(12.25,-16.825) 116(12.75,-16.825) 117(13.25,-16.825) 118(13.75,-16.825) 119(14.25,-16.825) 120(14.75,-16.825) 181(14.75,16.825) 182(14.25,16.825) 183(13.75,16.825) 184(13.25,16.825) 185(12.75,16.825) 186(12.25,16.825) 187(11.75,16.825) 188(11.25,16.825) 189(10.75,16.825) 190(10.25,16.825) 191(9.75,16.825) 192(9.25,16.825) 193(8.75,16.825) 194(8.25,16.825) 195(7.75,16.825) 196(7.25,16.825) 197(6.75,16.825) 198(6.25,16.825) 199(5.75,16.825) 200(5.25,16.825) 201(4.75,16.825) 202(4.25,16.825) 203(3.75,16.825) 204(3.25,16.825) 205(2.75,16.825) 206(2.25,16.825) 207(1.75,16.825) 208(1.25,16.825) 209(0.75,16.825) 210(0.25,16.825) 211(-0.25,16.825) 212(-0.75,16.825) 213(-1.25,16.825) 214(-1.75,16.825) 215(-2.25,16.825) 216(-2.75,16.825) 217(-3.25,16.825) 218(-3.75,16.825) 219(-4.25,16.825) 220(-4.75,16.825) 221(-5.25,16.825) 222(-5.75,16.825) 223(-6.25,16.825) 224(-6.75,16.825) 225(-7.25,16.825) 226(-7.75,16.825) 227(-8.25,16.825) 228(-8.75,16.825) 229(-9.25,16.825) 230(-9.75,16.825) 231(-10.25,16.825) 232(-10.75,16.825) 233(-11.25,16.825) 234(-11.75,16.825) 235(-12.25,16.825) 236(-12.75,16.825) 237(-13.25,16.825) 238(-13.75,16.825) 239(-14.25,16.825) 240(-14.75,16.825)
Top Overlay:
  circle w0.6: c-14.65,14.65 r0.3
  circle w0.25: c-16.825,15.425 r0.125
  lines w0.2: -15.65,-15.65 15.65,-15.65 15.65,15.65 -15.65,15.65 -15.65,-15.65
Mechanical 13:
  circle w0.1: c-15.1,15.1 r0.5
  lines w0.1: -16,-16 16,-16 16,16 -16,16 -16,-16
Mechanical 15:
  lines w0.1: -0.5,0 0.5,0 ; 0,-0.5 0,0.5 ; -17.7,-17.7 17.7,-17.7 17.7,17.7 -17.7,17.7 -17.7,-17.7
3D body: height 3.6, standoff 0, extent -16,-16 16,16

## 240Q1_M [mm] "240-Pin Shrink Quad Flat Pack 0.5 mm Pitch, IPC Low Density"
height 3.6
pads (240):
  oval 2.1x0.3 smd: 1(-16.9,14.75) 2(-16.9,14.25) 3(-16.9,13.75) 4(-16.9,13.25) 5(-16.9,12.75) 6(-16.9,12.25) 7(-16.9,11.75) 8(-16.9,11.25) 9(-16.9,10.75) 10(-16.9,10.25) 11(-16.9,9.75) 12(-16.9,9.25) 13(-16.9,8.75) 14(-16.9,8.25) 15(-16.9,7.75) 16(-16.9,7.25) 17(-16.9,6.75) 18(-16.9,6.25) 19(-16.9,5.75) 20(-16.9,5.25) 21(-16.9,4.75) 22(-16.9,4.25) 23(-16.9,3.75) 24(-16.9,3.25) 25(-16.9,2.75) 26(-16.9,2.25) 27(-16.9,1.75) 28(-16.9,1.25) 29(-16.9,0.75) 30(-16.9,0.25) 31(-16.9,-0.25) 32(-16.9,-0.75) 33(-16.9,-1.25) 34(-16.9,-1.75) 35(-16.9,-2.25) 36(-16.9,-2.75) 37(-16.9,-3.25) 38(-16.9,-3.75) 39(-16.9,-4.25) 40(-16.9,-4.75) 41(-16.9,-5.25) 42(-16.9,-5.75) 43(-16.9,-6.25) 44(-16.9,-6.75) 45(-16.9,-7.25) 46(-16.9,-7.75) 47(-16.9,-8.25) 48(-16.9,-8.75) 49(-16.9,-9.25) 50(-16.9,-9.75) 51(-16.9,-10.25) 52(-16.9,-10.75) 53(-16.9,-11.25) 54(-16.9,-11.75) 55(-16.9,-12.25) 56(-16.9,-12.75) 57(-16.9,-13.25) 58(-16.9,-13.75) 59(-16.9,-14.25) 60(-16.9,-14.75) 121(16.9,-14.75) 122(16.9,-14.25) 123(16.9,-13.75) 124(16.9,-13.25) 125(16.9,-12.75) 126(16.9,-12.25) 127(16.9,-11.75) 128(16.9,-11.25) 129(16.9,-10.75) 130(16.9,-10.25) 131(16.9,-9.75) 132(16.9,-9.25) 133(16.9,-8.75) 134(16.9,-8.25) 135(16.9,-7.75) 136(16.9,-7.25) 137(16.9,-6.75) 138(16.9,-6.25) 139(16.9,-5.75) 140(16.9,-5.25) 141(16.9,-4.75) 142(16.9,-4.25) 143(16.9,-3.75) 144(16.9,-3.25) 145(16.9,-2.75) 146(16.9,-2.25) 147(16.9,-1.75) 148(16.9,-1.25) 149(16.9,-0.75) 150(16.9,-0.25) 151(16.9,0.25) 152(16.9,0.75) 153(16.9,1.25) 154(16.9,1.75) 155(16.9,2.25) 156(16.9,2.75) 157(16.9,3.25) 158(16.9,3.75) 159(16.9,4.25) 160(16.9,4.75) 161(16.9,5.25) 162(16.9,5.75) 163(16.9,6.25) 164(16.9,6.75) 165(16.9,7.25) 166(16.9,7.75) 167(16.9,8.25) 168(16.9,8.75) 169(16.9,9.25) 170(16.9,9.75) 171(16.9,10.25) 172(16.9,10.75) 173(16.9,11.25) 174(16.9,11.75) 175(16.9,12.25) 176(16.9,12.75) 177(16.9,13.25) 178(16.9,13.75) 179(16.9,14.25) 180(16.9,14.75)
  oval 0.3x2.1 smd: 61(-14.75,-16.9) 62(-14.25,-16.9) 63(-13.75,-16.9) 64(-13.25,-16.9) 65(-12.75,-16.9) 66(-12.25,-16.9) 67(-11.75,-16.9) 68(-11.25,-16.9) 69(-10.75,-16.9) 70(-10.25,-16.9) 71(-9.75,-16.9) 72(-9.25,-16.9) 73(-8.75,-16.9) 74(-8.25,-16.9) 75(-7.75,-16.9) 76(-7.25,-16.9) 77(-6.75,-16.9) 78(-6.25,-16.9) 79(-5.75,-16.9) 80(-5.25,-16.9) 81(-4.75,-16.9) 82(-4.25,-16.9) 83(-3.75,-16.9) 84(-3.25,-16.9) 85(-2.75,-16.9) 86(-2.25,-16.9) 87(-1.75,-16.9) 88(-1.25,-16.9) 89(-0.75,-16.9) 90(-0.25,-16.9) 91(0.25,-16.9) 92(0.75,-16.9) 93(1.25,-16.9) 94(1.75,-16.9) 95(2.25,-16.9) 96(2.75,-16.9) 97(3.25,-16.9) 98(3.75,-16.9) 99(4.25,-16.9) 100(4.75,-16.9) 101(5.25,-16.9) 102(5.75,-16.9) 103(6.25,-16.9) 104(6.75,-16.9) 105(7.25,-16.9) 106(7.75,-16.9) 107(8.25,-16.9) 108(8.75,-16.9) 109(9.25,-16.9) 110(9.75,-16.9) 111(10.25,-16.9) 112(10.75,-16.9) 113(11.25,-16.9) 114(11.75,-16.9) 115(12.25,-16.9) 116(12.75,-16.9) 117(13.25,-16.9) 118(13.75,-16.9) 119(14.25,-16.9) 120(14.75,-16.9) 181(14.75,16.9) 182(14.25,16.9) 183(13.75,16.9) 184(13.25,16.9) 185(12.75,16.9) 186(12.25,16.9) 187(11.75,16.9) 188(11.25,16.9) 189(10.75,16.9) 190(10.25,16.9) 191(9.75,16.9) 192(9.25,16.9) 193(8.75,16.9) 194(8.25,16.9) 195(7.75,16.9) 196(7.25,16.9) 197(6.75,16.9) 198(6.25,16.9) 199(5.75,16.9) 200(5.25,16.9) 201(4.75,16.9) 202(4.25,16.9) 203(3.75,16.9) 204(3.25,16.9) 205(2.75,16.9) 206(2.25,16.9) 207(1.75,16.9) 208(1.25,16.9) 209(0.75,16.9) 210(0.25,16.9) 211(-0.25,16.9) 212(-0.75,16.9) 213(-1.25,16.9) 214(-1.75,16.9) 215(-2.25,16.9) 216(-2.75,16.9) 217(-3.25,16.9) 218(-3.75,16.9) 219(-4.25,16.9) 220(-4.75,16.9) 221(-5.25,16.9) 222(-5.75,16.9) 223(-6.25,16.9) 224(-6.75,16.9) 225(-7.25,16.9) 226(-7.75,16.9) 227(-8.25,16.9) 228(-8.75,16.9) 229(-9.25,16.9) 230(-9.75,16.9) 231(-10.25,16.9) 232(-10.75,16.9) 233(-11.25,16.9) 234(-11.75,16.9) 235(-12.25,16.9) 236(-12.75,16.9) 237(-13.25,16.9) 238(-13.75,16.9) 239(-14.25,16.9) 240(-14.75,16.9)
Top Overlay:
  circle w0.6: c-14.45,14.45 r0.3
  circle w0.25: c-16.9,15.45 r0.125
  lines w0.2: -15.45,-15.45 15.45,-15.45 15.45,15.45 -15.45,15.45 -15.45,-15.45
Mechanical 13:
  circle w0.1: c-15.1,15.1 r0.5
  lines w0.1: -16,-16 16,-16 16,16 -16,16 -16,-16
Mechanical 15:
  lines w0.1: -0.5,0 0.5,0 ; 0,-0.5 0,0.5 ; -18.45,-18.45 18.45,-18.45 18.45,18.45 -18.45,18.45 -18.45,-18.45
3D body: height 3.6, standoff 0, extent -16,-16 16,16

## 240Q1_N [mm] "240-Pin Shrink Quad Flat Pack 0.5 mm Pitch, IPC Medium Density"
height 3.6
pads (240):
  oval 1.8x0.3 smd: 1(-16.85,14.75) 2(-16.85,14.25) 3(-16.85,13.75) 4(-16.85,13.25) 5(-16.85,12.75) 6(-16.85,12.25) 7(-16.85,11.75) 8(-16.85,11.25) 9(-16.85,10.75) 10(-16.85,10.25) 11(-16.85,9.75) 12(-16.85,9.25) 13(-16.85,8.75) 14(-16.85,8.25) 15(-16.85,7.75) 16(-16.85,7.25) 17(-16.85,6.75) 18(-16.85,6.25) 19(-16.85,5.75) 20(-16.85,5.25) 21(-16.85,4.75) 22(-16.85,4.25) 23(-16.85,3.75) 24(-16.85,3.25) 25(-16.85,2.75) 26(-16.85,2.25) 27(-16.85,1.75) 28(-16.85,1.25) 29(-16.85,0.75) 30(-16.85,0.25) 31(-16.85,-0.25) 32(-16.85,-0.75) 33(-16.85,-1.25) 34(-16.85,-1.75) 35(-16.85,-2.25) 36(-16.85,-2.75) 37(-16.85,-3.25) 38(-16.85,-3.75) 39(-16.85,-4.25) 40(-16.85,-4.75) 41(-16.85,-5.25) 42(-16.85,-5.75) 43(-16.85,-6.25) 44(-16.85,-6.75) 45(-16.85,-7.25) 46(-16.85,-7.75) 47(-16.85,-8.25) 48(-16.85,-8.75) 49(-16.85,-9.25) 50(-16.85,-9.75) 51(-16.85,-10.25) 52(-16.85,-10.75) 53(-16.85,-11.25) 54(-16.85,-11.75) 55(-16.85,-12.25) 56(-16.85,-12.75) 57(-16.85,-13.25) 58(-16.85,-13.75) 59(-16.85,-14.25) 60(-16.85,-14.75) 121(16.85,-14.75) 122(16.85,-14.25) 123(16.85,-13.75) 124(16.85,-13.25) 125(16.85,-12.75) 126(16.85,-12.25) 127(16.85,-11.75) 128(16.85,-11.25) 129(16.85,-10.75) 130(16.85,-10.25) 131(16.85,-9.75) 132(16.85,-9.25) 133(16.85,-8.75) 134(16.85,-8.25) 135(16.85,-7.75) 136(16.85,-7.25) 137(16.85,-6.75) 138(16.85,-6.25) 139(16.85,-5.75) 140(16.85,-5.25) 141(16.85,-4.75) 142(16.85,-4.25) 143(16.85,-3.75) 144(16.85,-3.25) 145(16.85,-2.75) 146(16.85,-2.25) 147(16.85,-1.75) 148(16.85,-1.25) 149(16.85,-0.75) 150(16.85,-0.25) 151(16.85,0.25) 152(16.85,0.75) 153(16.85,1.25) 154(16.85,1.75) 155(16.85,2.25) 156(16.85,2.75) 157(16.85,3.25) 158(16.85,3.75) 159(16.85,4.25) 160(16.85,4.75) 161(16.85,5.25) 162(16.85,5.75) 163(16.85,6.25) 164(16.85,6.75) 165(16.85,7.25) 166(16.85,7.75) 167(16.85,8.25) 168(16.85,8.75) 169(16.85,9.25) 170(16.85,9.75) 171(16.85,10.25) 172(16.85,10.75) 173(16.85,11.25) 174(16.85,11.75) 175(16.85,12.25) 176(16.85,12.75) 177(16.85,13.25) 178(16.85,13.75) 179(16.85,14.25) 180(16.85,14.75)
  oval 0.3x1.8 smd: 61(-14.75,-16.85) 62(-14.25,-16.85) 63(-13.75,-16.85) 64(-13.25,-16.85) 65(-12.75,-16.85) 66(-12.25,-16.85) 67(-11.75,-16.85) 68(-11.25,-16.85) 69(-10.75,-16.85) 70(-10.25,-16.85) 71(-9.75,-16.85) 72(-9.25,-16.85) 73(-8.75,-16.85) 74(-8.25,-16.85) 75(-7.75,-16.85) 76(-7.25,-16.85) 77(-6.75,-16.85) 78(-6.25,-16.85) 79(-5.75,-16.85) 80(-5.25,-16.85) 81(-4.75,-16.85) 82(-4.25,-16.85) 83(-3.75,-16.85) 84(-3.25,-16.85) 85(-2.75,-16.85) 86(-2.25,-16.85) 87(-1.75,-16.85) 88(-1.25,-16.85) 89(-0.75,-16.85) 90(-0.25,-16.85) 91(0.25,-16.85) 92(0.75,-16.85) 93(1.25,-16.85) 94(1.75,-16.85) 95(2.25,-16.85) 96(2.75,-16.85) 97(3.25,-16.85) 98(3.75,-16.85) 99(4.25,-16.85) 100(4.75,-16.85) 101(5.25,-16.85) 102(5.75,-16.85) 103(6.25,-16.85) 104(6.75,-16.85) 105(7.25,-16.85) 106(7.75,-16.85) 107(8.25,-16.85) 108(8.75,-16.85) 109(9.25,-16.85) 110(9.75,-16.85) 111(10.25,-16.85) 112(10.75,-16.85) 113(11.25,-16.85) 114(11.75,-16.85) 115(12.25,-16.85) 116(12.75,-16.85) 117(13.25,-16.85) 118(13.75,-16.85) 119(14.25,-16.85) 120(14.75,-16.85) 181(14.75,16.85) 182(14.25,16.85) 183(13.75,16.85) 184(13.25,16.85) 185(12.75,16.85) 186(12.25,16.85) 187(11.75,16.85) 188(11.25,16.85) 189(10.75,16.85) 190(10.25,16.85) 191(9.75,16.85) 192(9.25,16.85) 193(8.75,16.85) 194(8.25,16.85) 195(7.75,16.85) 196(7.25,16.85) 197(6.75,16.85) 198(6.25,16.85) 199(5.75,16.85) 200(5.25,16.85) 201(4.75,16.85) 202(4.25,16.85) 203(3.75,16.85) 204(3.25,16.85) 205(2.75,16.85) 206(2.25,16.85) 207(1.75,16.85) 208(1.25,16.85) 209(0.75,16.85) 210(0.25,16.85) 211(-0.25,16.85) 212(-0.75,16.85) 213(-1.25,16.85) 214(-1.75,16.85) 215(-2.25,16.85) 216(-2.75,16.85) 217(-3.25,16.85) 218(-3.75,16.85) 219(-4.25,16.85) 220(-4.75,16.85) 221(-5.25,16.85) 222(-5.75,16.85) 223(-6.25,16.85) 224(-6.75,16.85) 225(-7.25,16.85) 226(-7.75,16.85) 227(-8.25,16.85) 228(-8.75,16.85) 229(-9.25,16.85) 230(-9.75,16.85) 231(-10.25,16.85) 232(-10.75,16.85) 233(-11.25,16.85) 234(-11.75,16.85) 235(-12.25,16.85) 236(-12.75,16.85) 237(-13.25,16.85) 238(-13.75,16.85) 239(-14.25,16.85) 240(-14.75,16.85)
Top Overlay:
  circle w0.6: c-14.55,14.55 r0.3
  circle w0.25: c-16.85,15.45 r0.125
  lines w0.2: -15.55,-15.55 15.55,-15.55 15.55,15.55 -15.55,15.55 -15.55,-15.55
Mechanical 13:
  circle w0.1: c-15.1,15.1 r0.5
  lines w0.1: -16,-16 16,-16 16,16 -16,16 -16,-16
Mechanical 15:
  lines w0.1: -0.5,0 0.5,0 ; 0,-0.5 0,0.5 ; -18,-18 18,-18 18,18 -18,18 -18,-18
3D body: height 3.6, standoff 0, extent -16,-16 16,16